# Altium integrated library Linear Technology Power Management Switching Regulator LT1074-LT8705.IntLib: 2252 symbols (part 143 of 148)
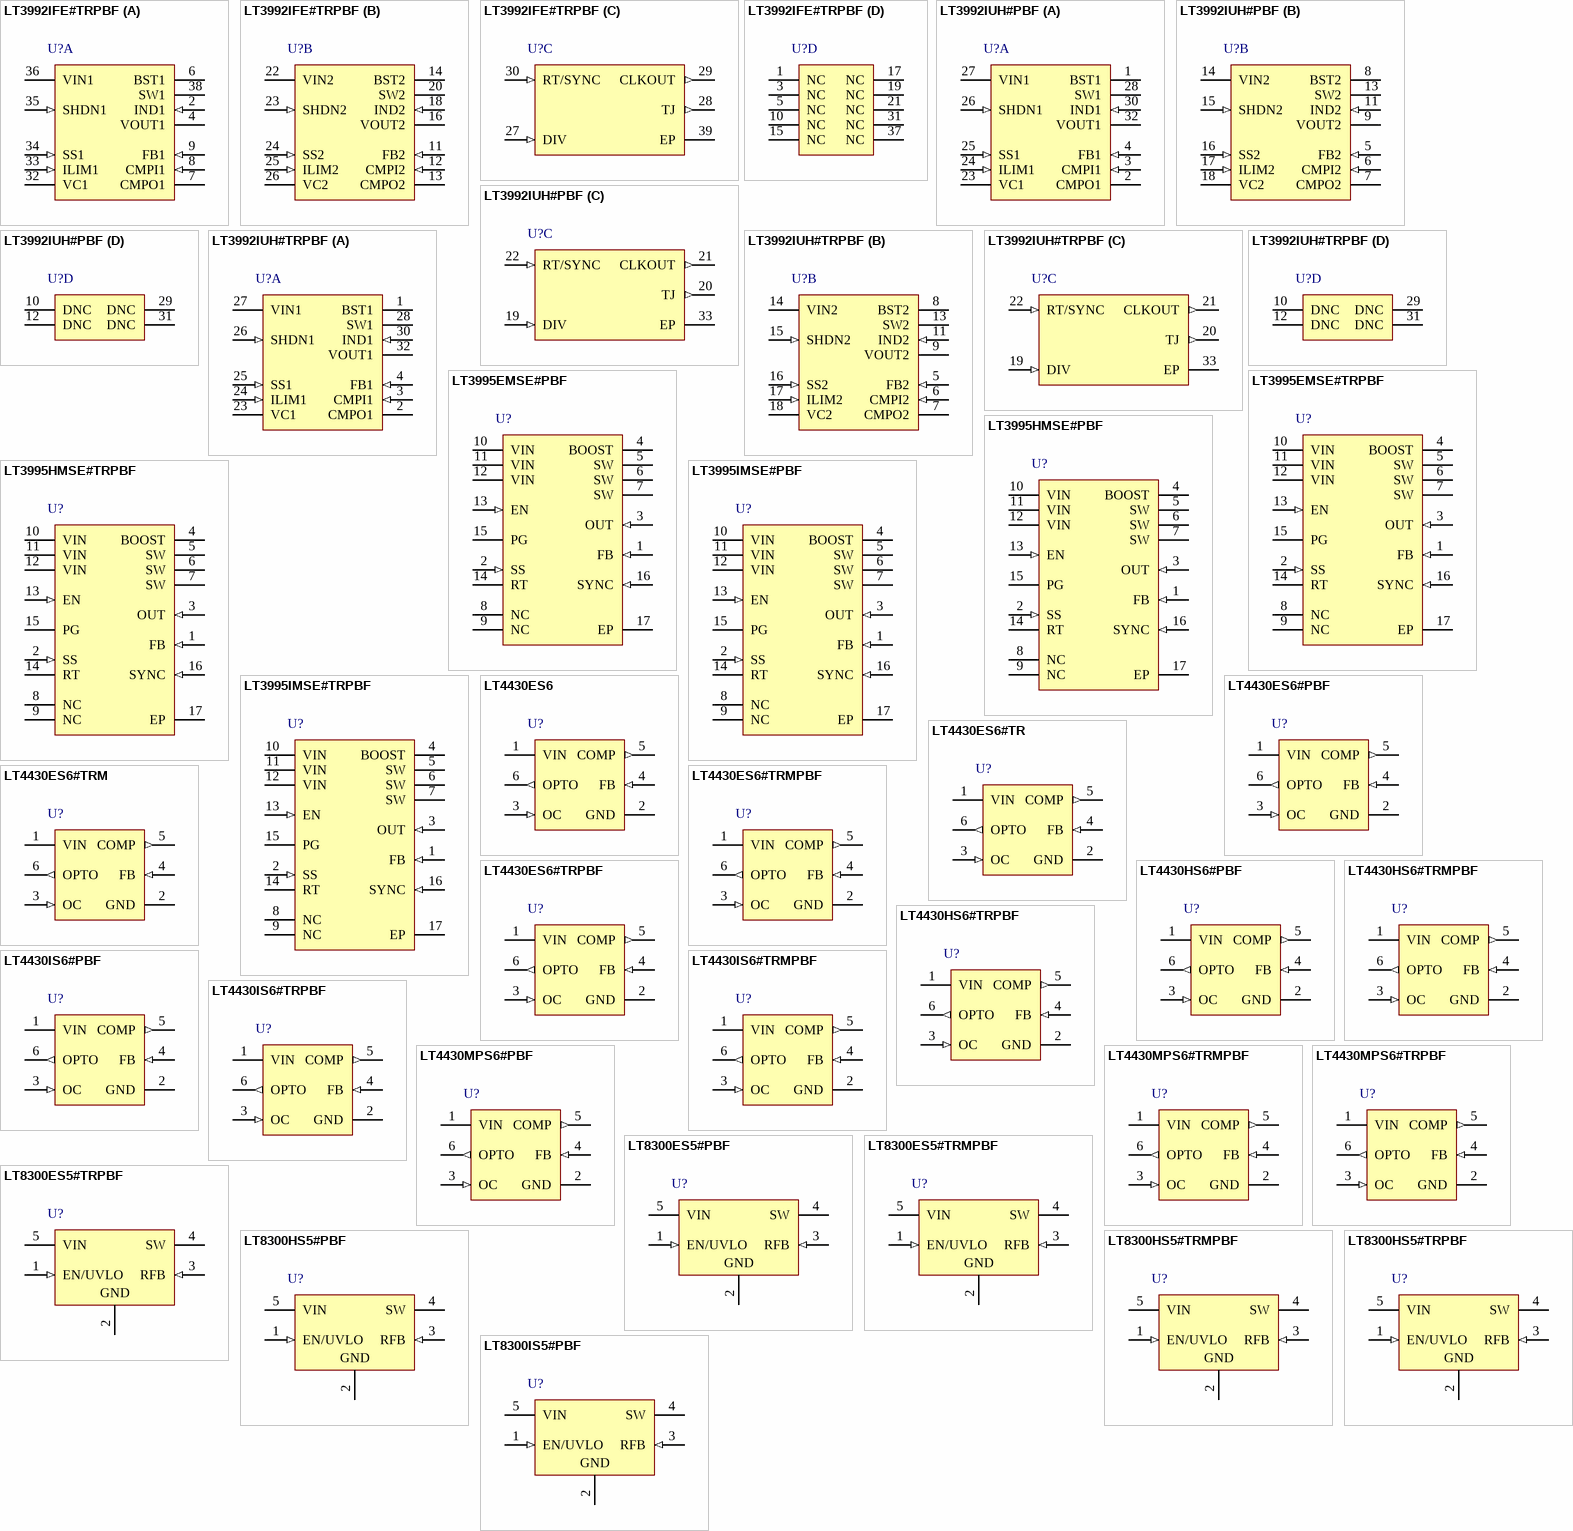
[diagram p213: symbols LT3992IFE#TRPBF to LT8300IS5#PBF]

## LT3992IUH#TRPBF
designator U?
Monolithic Dual Tracking 3 A Step-Down Switching Regulator, 32-pin QFN (UH-32), -40 to 125 degC, Pb-Free, Tape and Reel; Manufacturer: Linear Technology; PartNumber: LT3992IUH#TRPBF; Frequency Adjust Range: 250kHz - 2MHz; Number of Outputs: 2; DatasheetVersion: Rev. A; PackageVersion: Rev. D, 06/2010; PackageReference: UH-32; PackageDescription: 32-Pin Plastic QFN, Body 5 x 5 mm, Pitch 0.5 mm; Supplier 1: Digi-Key; Supplier Part Number 1: LT3992IUH#TRPBF-ND; Packing: Tape and Reel; RoHS: TRUE; Mounting Technology: Surface Mount; Code_JEDEC: MO-220; ComponentLink1Description: Manufacturer URL; ComponentLink1URL: http://www.linear.com/; ComponentLink2Description: Datasheet; ComponentLink2URL: http://cds.linear.com/docs/en/datasheet/3992fa.pdf; ComponentLink3Description: Package Specification; ComponentLink3URL: http://cds.linear.com/docs/en/packaging/QFN_32_05-08-1693.pdf
footprint LT-UH-32_N (QFN, 32-Leads, Body 5.1x5.1mm, Pitch 0.5mm, Thermal Pad 3.45X3.45mm, IPC Medium Density)
footprint LT-UH-32_L (QFN, 32-Leads, Body 5.1x5.1mm, Pitch 0.5mm, Thermal Pad 3.45X3.45mm, IPC High Density)
footprint LT-UH-32_M (QFN, 32-Leads, Body 5.1x5.1mm, Pitch 0.5mm, Thermal Pad 3.45X3.45mm, IPC Low Density)
part A pins: 1 BST1 "The BST pin provides a higher than VIN base drive to the power NPN to ensure a low switch drop. If the voltage between the BST pin and the VIN pin is less than the voltage required to fully turn on the power NPN, the power (See Datasheet)", 2 CMPO1 (oc) "The CMPO pin is an open-collector output that sinks current when the CMPI pin falls below its threshold. For a typical input voltage above 2.9V, its output state remains true, although during shutdown, VIN1 undervoltage (See Datasheet)", 3 CMPI1 (in) "The CMPI pin is an input to a comparator with a threshold of 725mV and 80mV of hysteresis. Connecting the CMPI pin to the FB pin will generate a power good signal when the output is within 90% of its regulated value.", 4 FB1 (in) "The FB pin is the negative input to the error amplifier. The output switches to regulate this pin to 806mV with respect to the exposed ground pad. Bias current flows out of the FB pin.", 23 VC1 "The VC pin is the output of the error amplifier and the input to the peak switch current comparator. It is normally used for frequency compensation, but can also be used as a current clamp or control loop override. If the (See Datasheet)", 24 ILIM1 (in) "The voltage present at the ILIM pin determines the peak inductor current for the channel. The ILIM pin is driven by an internal current source with a typical value of 12uA. A resistor from the ILIM pin to ground sets the (See Datasheet)", 25 SS1 (in) "Current flowing out the SS pin into an external capacitor defines the rise time of the output voltage. When the SS pin is lower than the 0.806V reference, the feedback is regulated to the SS voltage. When the SS pin exceeds (See Datasheet)", 26 SHDN1 (in) "The shutdown pin is used to control each channel’s operation. In addition to controlling channel 1, the SHDN1 pin also activates control circuitry for both channels and must be present for channel 2 to operate. When SHDN(See Datasheet)", 27 VIN1 (power) "The VIN1 pin powers the internal control circuitry for both channels and is monitored by an undervoltage lockout comparator. The VIN1 pin is also connected to the collector of channel 1’s on-chip power NPN switch. The VIN(See Datasheet)", 28 SW1 (power) "The SW pin is the emitter of the internal power NPN. At switch off, the inductor will drive this pin below ground with a high dV/dt. An external Schottky catch diode to ground, close to the SW pin and respective VIN (See Datasheet)", 30 IND1 (in) "The IND pin is the input to the internal sense resistor that measures current flowing in the inductor. When the current in the resistor exceeds the current dictated by the VC pin, the SW latch is held in reset, disabling the (See Datasheet)", 32 VOUT1 (power) "The VOUT pin is the output to the internal sense resistor that measures current flowing in the inductor. When the current in the resistor exceeds the current dictated by the VC pin, the SW latch is held in reset disabling (See Datasheet)"
part B pins: 5 FB2 (in) "The FB pin is the negative input to the error amplifier. The output switches to regulate this pin to 806mV with respect to the exposed ground pad. Bias current flows out of the FB pin.", 6 CMPI2 (in) "The CMPI pin is an input to a comparator with a threshold of 725mV and 80mV of hysteresis. Connecting the CMPI pin to the FB pin will generate a power good signal when the output is within 90% of its regulated value.", 7 CMPO2 (oc) "The CMPO pin is an open-collector output that sinks current when the CMPI pin falls below its threshold. For a typical input voltage above 2.9V, its output state remains true, although during shutdown, VIN1 undervoltage (See Datasheet)", 8 BST2 "The BST pin provides a higher than VIN base drive to the power NPN to ensure a low switch drop. If the voltage between the BST pin and the VIN pin is less than the voltage required to fully turn on the power NPN, the power (See Datasheet)", 9 VOUT2 (power) "The VOUT pin is the output to the internal sense resistor that measures current flowing in the inductor. When the current in the resistor exceeds the current dictated by the VC pin, the SW latch is held in reset disabling (See Datasheet)", 11 IND2 (in) "The IND pin is the input to the internal sense resistor that measures current flowing in the inductor. When the current in the resistor exceeds the current dictated by the VC pin, the SW latch is held in reset, disabling the (See Datasheet)", 13 SW2 (power) "The SW pin is the emitter of the internal power NPN. At switch off, the inductor will drive this pin below ground with a high dV/dt. An external Schottky catch diode to ground, close to the SW pin and respective VIN (See Datasheet)", 14 VIN2 (power) "The VIN2 pin powers the output stage for channel 2 and is monitored by an undervoltage lockout comparator. VIN1 voltage must be greater than typically 2.9V for VIN2 operation. The VIN2 pin is also the collector of channel (See Datasheet)", 15 SHDN2 (in) "The shutdown pin is used to control each channel’s operation. In addition to controlling channel 1, the SHDN1 pin also activates control circuitry for both channels and must be present for channel 2 to operate. When SHDN(See Datasheet)", 16 SS2 (in) "Current flowing out the SS pin into an external capacitor defines the rise time of the output voltage. When the SS pin is lower than the 0.806V reference, the feedback is regulated to the SS voltage. When the SS pin exceeds (See Datasheet)", 17 ILIM2 (in) "The voltage present at the ILIM pin determines the peak inductor current for the channel. The ILIM pin is driven by an internal current source with a typical value of 12uA. A resistor from the ILIM pin to ground sets the (See Datasheet)", 18 VC2 "The VC pin is the output of the error amplifier and the input to the peak switch current comparator. It is normally used for frequency compensation, but can also be used as a current clamp or control loop override. If the (See Datasheet)"
part C pins: 19 DIV (in) "The voltage present at the DIV pin determines the ratio of channel 1 frequency to the master clock frequency set by the RT/SYNC pin. The DIV pin is driven by an internal current source with a typical value of 12uA which (See Datasheet)", 20 TJ (out) "The TJ pin outputs a voltage proportional to junction temperature. The pin is 250mV for 25degreesC and has a slope of 10mV/degreesC. See the Applications Information section for more information.", 21 CLKOUT (out) "The CLKOUT pin generates a square wave of 0V to 2.5V which is synchronized to the internal oscillator. If the switching frequency is set by an external resistor the resultant clock duty cycle will be 50%. If the RT/SYNC pin (See Datasheet)", 22 RT/SYNC (in) "The voltage present at the RT/SYNC pin determines the constant switching frequency. The RT/SYNC pin is driven by an internal current source with a typical value of 12uA which allows a single resistor from the RT/ SYNC pin to (See Datasheet)", 33 EP (power) "The exposed pad pin is the only ground connection for the device. The exposed pad should be soldered to a large copper area to reduce thermal resistance. The GND pin is common to both channels and also serves as small-signal (See Datasheet)"
part D pins: 10 DNC "Do Not Connect.", 12 DNC "Do Not Connect.", 29 DNC "Do Not Connect.", 31 DNC "Do Not Connect."

## LT3995EMSE#PBF
designator U?
3 A, 2 MHz Step-Down Switching Regulator with 2.7 uA Quiescent Current, 16-pin SOP (MSE-16-EDP), -40 to 125 degC, Pb-Free; Manufacturer: Linear Technology; PartNumber: LT3995EMSE#PBF; Frequency Adjust Range: 200kHz - 2MHz; Number of Outputs: 1; PackageVersion: Rev. F, 05/2013; PackageReference: MSE-16; PackageDescription: 16-Pin Plastic MSOP, Exposed Die Pad, Body 4.039 x 3 mm, Pitch 0.5 mm; Supplier 1: Digi-Key; Supplier Part Number 1: LT3995EMSE#PBF-ND; Supplier 2: Newark; Supplier Part Number 2: 95W3394; RoHS: TRUE; Mounting Technology: Surface Mount; ComponentLink1Description: Manufacturer URL; ComponentLink1URL: http://www.linear.com/; ComponentLink2Description: Datasheet; ComponentLink2URL: http://cds.linear.com/docs/en/datasheet/3995f.pdf; ComponentLink3Description: Package Specification; ComponentLink3URL: http://cds.linear.com/docs/en/packaging/05081667_F_MSE16.pdf
footprint LT-MSE-16-EDP_N (SOP, 16-Leads, Body 4.1x3.1mm, Pitch 0.5mm, Thermal Pad 2.95x1.76mm, IPC Medium Density)
footprint LT-MSE-16-EDP_L (SOP, 16-Leads, Body 4.1x3.1mm, Pitch 0.5mm, Thermal Pad 2.95x1.76mm, IPC High Density)
footprint LT-MSE-16-EDP_M (SOP, 16-Leads, Body 4.1x3.1mm, Pitch 0.5mm, Thermal Pad 2.95x1.76mm, IPC Low Density)
pins: 1 FB (in) "The LT3995 regulates the FB pin to 1.197V. Connect the feedback resistor divider tap to this pin. Also, connect a phase lead capacitor between FB and the output. Typically, this capacitor is 10pF.", 2 SS (in) "A capacitor is tied between SS and ground to slowly ramp up the peak current limit of the LT3995 on start-up. There is an internal 1.8uA pull-up on this pin. The soft-start capacitor is actively discharged when the EN pin (See Datasheet)", 3 OUT (in) "This pin is an input to the dropout comparator which maintains a minimum dropout of 500mV between VIN and OUT. The OUT pin connects to the anode of the internal boost diode. This pin also supplies the current to the (See Datasheet)", 4 BOOST "This pin is used to provide a drive voltage, higher than the input voltage, to the internal bipolar NPN power switch.", 5 SW (power) "The SW pin is the output of an internal power switch. Connect these pins to the inductor, catch diode, and boost capacitor.", 6 SW (power) "The SW pin is the output of an internal power switch. Connect these pins to the inductor, catch diode, and boost capacitor.", 7 SW (power) "The SW pin is the output of an internal power switch. Connect these pins to the inductor, catch diode, and boost capacitor.", 8 NC "No Connects. These pins are not connected to internal circuitry.", 9 NC "No Connects. These pins are not connected to internal circuitry.", 10 VIN (power) "The VIN pin supplies current to the LT3995’s internal circuitry and to the internal power switch. These pins must be locally bypassed.", 11 VIN (power) "The VIN pin supplies current to the LT3995’s internal circuitry and to the internal power switch. These pins must be locally bypassed.", 12 VIN (power) "The VIN pin supplies current to the LT3995’s internal circuitry and to the internal power switch. These pins must be locally bypassed.", 13 EN (in) "The part is in shutdown when this pin is low and active when this pin is high. The hysteretic threshold voltage is 1.08V going up and 1.02V going down. The EN threshold is only accurate when VIN is above 4.3V. If VIN is (See Datasheet)", 14 RT "A resistor is tied between RT and ground to set the switching frequency.", 15 PG (hiz) "The PG pin is the open-drain output of an internal comparator. PGOOD remains low until the FB pin is within 8.4% of the final regulation voltage. PGOOD is valid when VIN is above 2V.", 16 SYNC (in) "This is the external clock synchronization input. Ground this pin for low ripple Burst Mode operation at low output loads. Tie to a clock source for synchronization, which will include pulse skipping at low output loads. (See Datasheet)", 17 EP (power) "Ground. The exposed pad must be soldered to the PCB."

## LT3995EMSE#TRPBF
designator U?
3 A, 2 MHz Step-Down Switching Regulator with 2.7 uA Quiescent Current, 16-pin SOP (MSE-16-EDP), -40 to 125 degC, Pb-Free, Tape and Reel; Manufacturer: Linear Technology; PartNumber: LT3995EMSE#TRPBF; Frequency Adjust Range: 200kHz - 2MHz; Number of Outputs: 1; PackageVersion: Rev. F, 05/2013; PackageReference: MSE-16; PackageDescription: 16-Pin Plastic MSOP, Exposed Die Pad, Body 4.039 x 3 mm, Pitch 0.5 mm; Supplier 1: Digi-Key; Supplier Part Number 1: LT3995EMSE#TRPBF-ND; Supplier 2: Newark; Supplier Part Number 2: 95W3395; Packing: Tape and Reel; RoHS: TRUE; Mounting Technology: Surface Mount; ComponentLink1Description: Manufacturer URL; ComponentLink1URL: http://www.linear.com/; ComponentLink2Description: Datasheet; ComponentLink2URL: http://cds.linear.com/docs/en/datasheet/3995f.pdf; ComponentLink3Description: Package Specification; ComponentLink3URL: http://cds.linear.com/docs/en/packaging/05081667_F_MSE16.pdf
footprint LT-MSE-16-EDP_N (SOP, 16-Leads, Body 4.1x3.1mm, Pitch 0.5mm, Thermal Pad 2.95x1.76mm, IPC Medium Density)
footprint LT-MSE-16-EDP_L (SOP, 16-Leads, Body 4.1x3.1mm, Pitch 0.5mm, Thermal Pad 2.95x1.76mm, IPC High Density)
footprint LT-MSE-16-EDP_M (SOP, 16-Leads, Body 4.1x3.1mm, Pitch 0.5mm, Thermal Pad 2.95x1.76mm, IPC Low Density)
pins: 1 FB (in) "The LT3995 regulates the FB pin to 1.197V. Connect the feedback resistor divider tap to this pin. Also, connect a phase lead capacitor between FB and the output. Typically, this capacitor is 10pF.", 2 SS (in) "A capacitor is tied between SS and ground to slowly ramp up the peak current limit of the LT3995 on start-up. There is an internal 1.8uA pull-up on this pin. The soft-start capacitor is actively discharged when the EN pin (See Datasheet)", 3 OUT (in) "This pin is an input to the dropout comparator which maintains a minimum dropout of 500mV between VIN and OUT. The OUT pin connects to the anode of the internal boost diode. This pin also supplies the current to the (See Datasheet)", 4 BOOST "This pin is used to provide a drive voltage, higher than the input voltage, to the internal bipolar NPN power switch.", 5 SW (power) "The SW pin is the output of an internal power switch. Connect these pins to the inductor, catch diode, and boost capacitor.", 6 SW (power) "The SW pin is the output of an internal power switch. Connect these pins to the inductor, catch diode, and boost capacitor.", 7 SW (power) "The SW pin is the output of an internal power switch. Connect these pins to the inductor, catch diode, and boost capacitor.", 8 NC "No Connects. These pins are not connected to internal circuitry.", 9 NC "No Connects. These pins are not connected to internal circuitry.", 10 VIN (power) "The VIN pin supplies current to the LT3995’s internal circuitry and to the internal power switch. These pins must be locally bypassed.", 11 VIN (power) "The VIN pin supplies current to the LT3995’s internal circuitry and to the internal power switch. These pins must be locally bypassed.", 12 VIN (power) "The VIN pin supplies current to the LT3995’s internal circuitry and to the internal power switch. These pins must be locally bypassed.", 13 EN (in) "The part is in shutdown when this pin is low and active when this pin is high. The hysteretic threshold voltage is 1.08V going up and 1.02V going down. The EN threshold is only accurate when VIN is above 4.3V. If VIN is (See Datasheet)", 14 RT "A resistor is tied between RT and ground to set the switching frequency.", 15 PG (hiz) "The PG pin is the open-drain output of an internal comparator. PGOOD remains low until the FB pin is within 8.4% of the final regulation voltage. PGOOD is valid when VIN is above 2V.", 16 SYNC (in) "This is the external clock synchronization input. Ground this pin for low ripple Burst Mode operation at low output loads. Tie to a clock source for synchronization, which will include pulse skipping at low output loads. (See Datasheet)", 17 EP (power) "Ground. The exposed pad must be soldered to the PCB."

## LT3995HMSE#PBF
designator U?
3 A, 2 MHz Step-Down Switching Regulator with 2.7 uA Quiescent Current, 16-pin SOP (MSE-16-EDP), -40 to 150 degC, Pb-Free; Manufacturer: Linear Technology; PartNumber: LT3995HMSE#PBF; Frequency Adjust Range: 200kHz - 2MHz; Number of Outputs: 1; PackageVersion: Rev. F, 05/2013; PackageReference: MSE-16; PackageDescription: 16-Pin Plastic MSOP, Exposed Die Pad, Body 4.039 x 3 mm, Pitch 0.5 mm; Supplier 1: Digi-Key; Supplier Part Number 1: LT3995HMSE#PBF-ND; Supplier 2: Newark; Supplier Part Number 2: 95W3396; RoHS: TRUE; Mounting Technology: Surface Mount; ComponentLink1Description: Manufacturer URL; ComponentLink1URL: http://www.linear.com/; ComponentLink2Description: Datasheet; ComponentLink2URL: http://cds.linear.com/docs/en/datasheet/3995f.pdf; ComponentLink3Description: Package Specification; ComponentLink3URL: http://cds.linear.com/docs/en/packaging/05081667_F_MSE16.pdf
footprint LT-MSE-16-EDP_N (SOP, 16-Leads, Body 4.1x3.1mm, Pitch 0.5mm, Thermal Pad 2.95x1.76mm, IPC Medium Density)
footprint LT-MSE-16-EDP_L (SOP, 16-Leads, Body 4.1x3.1mm, Pitch 0.5mm, Thermal Pad 2.95x1.76mm, IPC High Density)
footprint LT-MSE-16-EDP_M (SOP, 16-Leads, Body 4.1x3.1mm, Pitch 0.5mm, Thermal Pad 2.95x1.76mm, IPC Low Density)
pins: 1 FB (in) "The LT3995 regulates the FB pin to 1.197V. Connect the feedback resistor divider tap to this pin. Also, connect a phase lead capacitor between FB and the output. Typically, this capacitor is 10pF.", 2 SS (in) "A capacitor is tied between SS and ground to slowly ramp up the peak current limit of the LT3995 on start-up. There is an internal 1.8uA pull-up on this pin. The soft-start capacitor is actively discharged when the EN pin (See Datasheet)", 3 OUT (in) "This pin is an input to the dropout comparator which maintains a minimum dropout of 500mV between VIN and OUT. The OUT pin connects to the anode of the internal boost diode. This pin also supplies the current to the (See Datasheet)", 4 BOOST "This pin is used to provide a drive voltage, higher than the input voltage, to the internal bipolar NPN power switch.", 5 SW (power) "The SW pin is the output of an internal power switch. Connect these pins to the inductor, catch diode, and boost capacitor.", 6 SW (power) "The SW pin is the output of an internal power switch. Connect these pins to the inductor, catch diode, and boost capacitor.", 7 SW (power) "The SW pin is the output of an internal power switch. Connect these pins to the inductor, catch diode, and boost capacitor.", 8 NC "No Connects. These pins are not connected to internal circuitry.", 9 NC "No Connects. These pins are not connected to internal circuitry.", 10 VIN (power) "The VIN pin supplies current to the LT3995’s internal circuitry and to the internal power switch. These pins must be locally bypassed.", 11 VIN (power) "The VIN pin supplies current to the LT3995’s internal circuitry and to the internal power switch. These pins must be locally bypassed.", 12 VIN (power) "The VIN pin supplies current to the LT3995’s internal circuitry and to the internal power switch. These pins must be locally bypassed.", 13 EN (in) "The part is in shutdown when this pin is low and active when this pin is high. The hysteretic threshold voltage is 1.08V going up and 1.02V going down. The EN threshold is only accurate when VIN is above 4.3V. If VIN is (See Datasheet)", 14 RT "A resistor is tied between RT and ground to set the switching frequency.", 15 PG (hiz) "The PG pin is the open-drain output of an internal comparator. PGOOD remains low until the FB pin is within 8.4% of the final regulation voltage. PGOOD is valid when VIN is above 2V.", 16 SYNC (in) "This is the external clock synchronization input. Ground this pin for low ripple Burst Mode operation at low output loads. Tie to a clock source for synchronization, which will include pulse skipping at low output loads. (See Datasheet)", 17 EP (power) "Ground. The exposed pad must be soldered to the PCB."

## LT3995HMSE#TRPBF
designator U?
3 A, 2 MHz Step-Down Switching Regulator with 2.7 uA Quiescent Current, 16-pin SOP (MSE-16-EDP), -40 to 150 degC, Pb-Free, Tape and Reel; Manufacturer: Linear Technology; PartNumber: LT3995HMSE#TRPBF; Frequency Adjust Range: 200kHz - 2MHz; Number of Outputs: 1; PackageVersion: Rev. F, 05/2013; PackageReference: MSE-16; PackageDescription: 16-Pin Plastic MSOP, Exposed Die Pad, Body 4.039 x 3 mm, Pitch 0.5 mm; Supplier 1: Digi-Key; Supplier Part Number 1: LT3995HMSE#TRPBF-ND; Supplier 2: Newark; Supplier Part Number 2: 95W3397; Packing: Tape and Reel; RoHS: TRUE; Mounting Technology: Surface Mount; ComponentLink1Description: Manufacturer URL; ComponentLink1URL: http://www.linear.com/; ComponentLink2Description: Datasheet; ComponentLink2URL: http://cds.linear.com/docs/en/datasheet/3995f.pdf; ComponentLink3Description: Package Specification; ComponentLink3URL: http://cds.linear.com/docs/en/packaging/05081667_F_MSE16.pdf
footprint LT-MSE-16-EDP_N (SOP, 16-Leads, Body 4.1x3.1mm, Pitch 0.5mm, Thermal Pad 2.95x1.76mm, IPC Medium Density)
footprint LT-MSE-16-EDP_L (SOP, 16-Leads, Body 4.1x3.1mm, Pitch 0.5mm, Thermal Pad 2.95x1.76mm, IPC High Density)
footprint LT-MSE-16-EDP_M (SOP, 16-Leads, Body 4.1x3.1mm, Pitch 0.5mm, Thermal Pad 2.95x1.76mm, IPC Low Density)
pins: 1 FB (in) "The LT3995 regulates the FB pin to 1.197V. Connect the feedback resistor divider tap to this pin. Also, connect a phase lead capacitor between FB and the output. Typically, this capacitor is 10pF.", 2 SS (in) "A capacitor is tied between SS and ground to slowly ramp up the peak current limit of the LT3995 on start-up. There is an internal 1.8uA pull-up on this pin. The soft-start capacitor is actively discharged when the EN pin (See Datasheet)", 3 OUT (in) "This pin is an input to the dropout comparator which maintains a minimum dropout of 500mV between VIN and OUT. The OUT pin connects to the anode of the internal boost diode. This pin also supplies the current to the (See Datasheet)", 4 BOOST "This pin is used to provide a drive voltage, higher than the input voltage, to the internal bipolar NPN power switch.", 5 SW (power) "The SW pin is the output of an internal power switch. Connect these pins to the inductor, catch diode, and boost capacitor.", 6 SW (power) "The SW pin is the output of an internal power switch. Connect these pins to the inductor, catch diode, and boost capacitor.", 7 SW (power) "The SW pin is the output of an internal power switch. Connect these pins to the inductor, catch diode, and boost capacitor.", 8 NC "No Connects. These pins are not connected to internal circuitry.", 9 NC "No Connects. These pins are not connected to internal circuitry.", 10 VIN (power) "The VIN pin supplies current to the LT3995’s internal circuitry and to the internal power switch. These pins must be locally bypassed.", 11 VIN (power) "The VIN pin supplies current to the LT3995’s internal circuitry and to the internal power switch. These pins must be locally bypassed.", 12 VIN (power) "The VIN pin supplies current to the LT3995’s internal circuitry and to the internal power switch. These pins must be locally bypassed.", 13 EN (in) "The part is in shutdown when this pin is low and active when this pin is high. The hysteretic threshold voltage is 1.08V going up and 1.02V going down. The EN threshold is only accurate when VIN is above 4.3V. If VIN is (See Datasheet)", 14 RT "A resistor is tied between RT and ground to set the switching frequency.", 15 PG (hiz) "The PG pin is the open-drain output of an internal comparator. PGOOD remains low until the FB pin is within 8.4% of the final regulation voltage. PGOOD is valid when VIN is above 2V.", 16 SYNC (in) "This is the external clock synchronization input. Ground this pin for low ripple Burst Mode operation at low output loads. Tie to a clock source for synchronization, which will include pulse skipping at low output loads. (See Datasheet)", 17 EP (power) "Ground. The exposed pad must be soldered to the PCB."

## LT3995IMSE#PBF
designator U?
3 A, 2 MHz Step-Down Switching Regulator with 2.7 uA Quiescent Current, 16-pin SOP (MSE-16-EDP), -40 to 125 degC, Pb-Free; Manufacturer: Linear Technology; PartNumber: LT3995IMSE#PBF; Frequency Adjust Range: 200kHz - 2MHz; Number of Outputs: 1; PackageVersion: Rev. F, 05/2013; PackageReference: MSE-16; PackageDescription: 16-Pin Plastic MSOP, Exposed Die Pad, Body 4.039 x 3 mm, Pitch 0.5 mm; Supplier 1: Digi-Key; Supplier Part Number 1: LT3995IMSE#PBF-ND; Supplier 2: Newark; Supplier Part Number 2: 95W3398; RoHS: TRUE; Mounting Technology: Surface Mount; ComponentLink1Description: Manufacturer URL; ComponentLink1URL: http://www.linear.com/; ComponentLink2Description: Datasheet; ComponentLink2URL: http://cds.linear.com/docs/en/datasheet/3995f.pdf; ComponentLink3Description: Package Specification; ComponentLink3URL: http://cds.linear.com/docs/en/packaging/05081667_F_MSE16.pdf
footprint LT-MSE-16-EDP_N (SOP, 16-Leads, Body 4.1x3.1mm, Pitch 0.5mm, Thermal Pad 2.95x1.76mm, IPC Medium Density)
footprint LT-MSE-16-EDP_L (SOP, 16-Leads, Body 4.1x3.1mm, Pitch 0.5mm, Thermal Pad 2.95x1.76mm, IPC High Density)
footprint LT-MSE-16-EDP_M (SOP, 16-Leads, Body 4.1x3.1mm, Pitch 0.5mm, Thermal Pad 2.95x1.76mm, IPC Low Density)
pins: 1 FB (in) "The LT3995 regulates the FB pin to 1.197V. Connect the feedback resistor divider tap to this pin. Also, connect a phase lead capacitor between FB and the output. Typically, this capacitor is 10pF.", 2 SS (in) "A capacitor is tied between SS and ground to slowly ramp up the peak current limit of the LT3995 on start-up. There is an internal 1.8uA pull-up on this pin. The soft-start capacitor is actively discharged when the EN pin (See Datasheet)", 3 OUT (in) "This pin is an input to the dropout comparator which maintains a minimum dropout of 500mV between VIN and OUT. The OUT pin connects to the anode of the internal boost diode. This pin also supplies the current to the (See Datasheet)", 4 BOOST "This pin is used to provide a drive voltage, higher than the input voltage, to the internal bipolar NPN power switch.", 5 SW (power) "The SW pin is the output of an internal power switch. Connect these pins to the inductor, catch diode, and boost capacitor.", 6 SW (power) "The SW pin is the output of an internal power switch. Connect these pins to the inductor, catch diode, and boost capacitor.", 7 SW (power) "The SW pin is the output of an internal power switch. Connect these pins to the inductor, catch diode, and boost capacitor.", 8 NC "No Connects. These pins are not connected to internal circuitry.", 9 NC "No Connects. These pins are not connected to internal circuitry.", 10 VIN (power) "The VIN pin supplies current to the LT3995’s internal circuitry and to the internal power switch. These pins must be locally bypassed.", 11 VIN (power) "The VIN pin supplies current to the LT3995’s internal circuitry and to the internal power switch. These pins must be locally bypassed.", 12 VIN (power) "The VIN pin supplies current to the LT3995’s internal circuitry and to the internal power switch. These pins must be locally bypassed.", 13 EN (in) "The part is in shutdown when this pin is low and active when this pin is high. The hysteretic threshold voltage is 1.08V going up and 1.02V going down. The EN threshold is only accurate when VIN is above 4.3V. If VIN is (See Datasheet)", 14 RT "A resistor is tied between RT and ground to set the switching frequency.", 15 PG (hiz) "The PG pin is the open-drain output of an internal comparator. PGOOD remains low until the FB pin is within 8.4% of the final regulation voltage. PGOOD is valid when VIN is above 2V.", 16 SYNC (in) "This is the external clock synchronization input. Ground this pin for low ripple Burst Mode operation at low output loads. Tie to a clock source for synchronization, which will include pulse skipping at low output loads. (See Datasheet)", 17 EP (power) "Ground. The exposed pad must be soldered to the PCB."

## LT3995IMSE#TRPBF
designator U?
3 A, 2 MHz Step-Down Switching Regulator with 2.7 uA Quiescent Current, 16-pin SOP (MSE-16-EDP), -40 to 125 degC, Pb-Free, Tape and Reel; Manufacturer: Linear Technology; PartNumber: LT3995IMSE#TRPBF; Frequency Adjust Range: 200kHz - 2MHz; Number of Outputs: 1; PackageVersion: Rev. F, 05/2013; PackageReference: MSE-16; PackageDescription: 16-Pin Plastic MSOP, Exposed Die Pad, Body 4.039 x 3 mm, Pitch 0.5 mm; Supplier 1: Digi-Key; Supplier Part Number 1: LT3995IMSE#TRPBF-ND; Supplier 2: Newark; Supplier Part Number 2: 95W3399; Packing: Tape and Reel; RoHS: TRUE; Mounting Technology: Surface Mount; ComponentLink1Description: Manufacturer URL; ComponentLink1URL: http://www.linear.com/; ComponentLink2Description: Datasheet; ComponentLink2URL: http://cds.linear.com/docs/en/datasheet/3995f.pdf; ComponentLink3Description: Package Specification; ComponentLink3URL: http://cds.linear.com/docs/en/packaging/05081667_F_MSE16.pdf
footprint LT-MSE-16-EDP_N (SOP, 16-Leads, Body 4.1x3.1mm, Pitch 0.5mm, Thermal Pad 2.95x1.76mm, IPC Medium Density)
footprint LT-MSE-16-EDP_L (SOP, 16-Leads, Body 4.1x3.1mm, Pitch 0.5mm, Thermal Pad 2.95x1.76mm, IPC High Density)
footprint LT-MSE-16-EDP_M (SOP, 16-Leads, Body 4.1x3.1mm, Pitch 0.5mm, Thermal Pad 2.95x1.76mm, IPC Low Density)
pins: 1 FB (in) "The LT3995 regulates the FB pin to 1.197V. Connect the feedback resistor divider tap to this pin. Also, connect a phase lead capacitor between FB and the output. Typically, this capacitor is 10pF.", 2 SS (in) "A capacitor is tied between SS and ground to slowly ramp up the peak current limit of the LT3995 on start-up. There is an internal 1.8uA pull-up on this pin. The soft-start capacitor is actively discharged when the EN pin (See Datasheet)", 3 OUT (in) "This pin is an input to the dropout comparator which maintains a minimum dropout of 500mV between VIN and OUT. The OUT pin connects to the anode of the internal boost diode. This pin also supplies the current to the (See Datasheet)", 4 BOOST "This pin is used to provide a drive voltage, higher than the input voltage, to the internal bipolar NPN power switch.", 5 SW (power) "The SW pin is the output of an internal power switch. Connect these pins to the inductor, catch diode, and boost capacitor.", 6 SW (power) "The SW pin is the output of an internal power switch. Connect these pins to the inductor, catch diode, and boost capacitor.", 7 SW (power) "The SW pin is the output of an internal power switch. Connect these pins to the inductor, catch diode, and boost capacitor.", 8 NC "No Connects. These pins are not connected to internal circuitry.", 9 NC "No Connects. These pins are not connected to internal circuitry.", 10 VIN (power) "The VIN pin supplies current to the LT3995’s internal circuitry and to the internal power switch. These pins must be locally bypassed.", 11 VIN (power) "The VIN pin supplies current to the LT3995’s internal circuitry and to the internal power switch. These pins must be locally bypassed.", 12 VIN (power) "The VIN pin supplies current to the LT3995’s internal circuitry and to the internal power switch. These pins must be locally bypassed.", 13 EN (in) "The part is in shutdown when this pin is low and active when this pin is high. The hysteretic threshold voltage is 1.08V going up and 1.02V going down. The EN threshold is only accurate when VIN is above 4.3V. If VIN is (See Datasheet)", 14 RT "A resistor is tied between RT and ground to set the switching frequency.", 15 PG (hiz) "The PG pin is the open-drain output of an internal comparator. PGOOD remains low until the FB pin is within 8.4% of the final regulation voltage. PGOOD is valid when VIN is above 2V.", 16 SYNC (in) "This is the external clock synchronization input. Ground this pin for low ripple Burst Mode operation at low output loads. Tie to a clock source for synchronization, which will include pulse skipping at low output loads. (See Datasheet)", 17 EP (power) "Ground. The exposed pad must be soldered to the PCB."

## LT4430ES6
designator U?
Secondary-Side Optocoupler Driver, 6-pin SOT23 (S6-6), -40 to 125 degC; Manufacturer: Linear Technology; PartNumber: LT4430ES6; Number of Outputs: 1; DatasheetVersion: Rev. B; PackageVersion: Jun-10; PackageReference: S6-6; PackageDescription: 6-Pin Plastic TSOT-23, Body 2.9 x 1.63 mm, Pitch 0.95 mm; RoHS: FALSE; Mounting Technology: Surface Mount; Code_JEDEC: MO-193; ComponentLink1Description: Manufacturer URL; ComponentLink1URL: http://www.linear.com/; ComponentLink2Description: Datasheet; ComponentLink2URL: http://cds.linear.com/docs/en/datasheet/4430fb.pdf; ComponentLink3Description: Package Specification; ComponentLink3URL: http://cds.linear.com/docs/en/packaging/SOT_6_05-08-1636.pdf
footprint LT-S6-6-TSOT-23_N (SOT23, 6-Leads, Body 2.9x1.75mm, Pitch 0.95mm, IPC Medium Density)
footprint LT-S6-6-TSOT-23_L (SOT23, 6-Leads, Body 2.9x1.75mm, Pitch 0.95mm, IPC High Density)
footprint LT-S6-6-TSOT-23_M (SOT23, 6-Leads, Body 2.9x1.75mm, Pitch 0.95mm, IPC Low Density)
pins: 1 VIN (power) "This is the input supply that powers all internal circuitry. The input supply range is 3V minimum to 20V maximum and the typical input quiescent current is 1.9mA. Connect a 1uF bypass capacitor directly from VIN to GND.", 2 GND (power) "Analog Ground Pin. It is also the negative sense terminal for the internal 0.6V reference. Connect the external feedback divider network that terminates to ground directly to this pin for best regulation and performance.", 3 OC (in) "Overshoot Control Pin. A typical 8.5uA current source and a capacitor placed from this pin to GND controls output voltage overshoot on start-up and recovery from short-circuit. The typical ramp time is (COC ?.6V)/8.5uA(See Datasheet)", 4 FB (in) "This is the inverting input of the error amplifier. The noninverting input is tied to the internal 0.6V reference. Input bias current for this pin is typically 75nA flowing out of the pin. This pin normally ties to a (See Datasheet)", 5 COMP (out) "This is the output of the error amplifier. The error amplifier is a true voltage-mode error amplifier and frequency compensation is performed around the amplifier. Typical LT4430 compensation schemes use series R-C in (See Datasheet)", 6 OPTO (out) "This is the output of the amplifier that drives the opto-coupler. The opto driver amplifier uses an inverting gain of six configuration to drive the opto-coupler referenced to ground. Driving the opto-coupler referenced to (See Datasheet)"

## LT4430ES6#PBF
designator U?
Secondary-Side Optocoupler Driver, 6-pin SOT23 (S6-6), -40 to 125 degC, Pb-Free; Manufacturer: Linear Technology; PartNumber: LT4430ES6#PBF; Number of Outputs: 1; DatasheetVersion: Rev. B; PackageVersion: Jun-10; PackageReference: S6-6; PackageDescription: 6-Pin Plastic TSOT-23, Body 2.9 x 1.63 mm, Pitch 0.95 mm; Supplier 1: Farnell; Supplier Part Number 1: 2308215; Supplier 2: Newark; Supplier Part Number 2: 78T4110; RoHS: TRUE; Mounting Technology: Surface Mount; Code_JEDEC: MO-193; ComponentLink1Description: Manufacturer URL; ComponentLink1URL: http://www.linear.com/; ComponentLink2Description: Datasheet; ComponentLink2URL: http://cds.linear.com/docs/en/datasheet/4430fb.pdf; ComponentLink3Description: Package Specification; ComponentLink3URL: http://cds.linear.com/docs/en/packaging/SOT_6_05-08-1636.pdf
footprint LT-S6-6-TSOT-23_N (SOT23, 6-Leads, Body 2.9x1.75mm, Pitch 0.95mm, IPC Medium Density)
footprint LT-S6-6-TSOT-23_L (SOT23, 6-Leads, Body 2.9x1.75mm, Pitch 0.95mm, IPC High Density)
footprint LT-S6-6-TSOT-23_M (SOT23, 6-Leads, Body 2.9x1.75mm, Pitch 0.95mm, IPC Low Density)
pins: 1 VIN (power) "This is the input supply that powers all internal circuitry. The input supply range is 3V minimum to 20V maximum and the typical input quiescent current is 1.9mA. Connect a 1uF bypass capacitor directly from VIN to GND.", 2 GND (power) "Analog Ground Pin. It is also the negative sense terminal for the internal 0.6V reference. Connect the external feedback divider network that terminates to ground directly to this pin for best regulation and performance.", 3 OC (in) "Overshoot Control Pin. A typical 8.5uA current source and a capacitor placed from this pin to GND controls output voltage overshoot on start-up and recovery from short-circuit. The typical ramp time is (COC ?.6V)/8.5uA(See Datasheet)", 4 FB (in) "This is the inverting input of the error amplifier. The noninverting input is tied to the internal 0.6V reference. Input bias current for this pin is typically 75nA flowing out of the pin. This pin normally ties to a (See Datasheet)", 5 COMP (out) "This is the output of the error amplifier. The error amplifier is a true voltage-mode error amplifier and frequency compensation is performed around the amplifier. Typical LT4430 compensation schemes use series R-C in (See Datasheet)", 6 OPTO (out) "This is the output of the amplifier that drives the opto-coupler. The opto driver amplifier uses an inverting gain of six configuration to drive the opto-coupler referenced to ground. Driving the opto-coupler referenced to (See Datasheet)"

## LT4430ES6#TR
designator U?
Secondary-Side Optocoupler Driver, 6-pin SOT23 (S6-6), -40 to 125 degC, Tape and Reel; Manufacturer: Linear Technology; PartNumber: LT4430ES6#TR; Number of Outputs: 1; DatasheetVersion: Rev. B; PackageVersion: Jun-10; PackageReference: S6-6; PackageDescription: 6-Pin Plastic TSOT-23, Body 2.9 x 1.63 mm, Pitch 0.95 mm; Packing: Tape and Reel; RoHS: FALSE; Mounting Technology: Surface Mount; Code_JEDEC: MO-193; ComponentLink1Description: Manufacturer URL; ComponentLink1URL: http://www.linear.com/; ComponentLink2Description: Datasheet; ComponentLink2URL: http://cds.linear.com/docs/en/datasheet/4430fb.pdf; ComponentLink3Description: Package Specification; ComponentLink3URL: http://cds.linear.com/docs/en/packaging/SOT_6_05-08-1636.pdf
footprint LT-S6-6-TSOT-23_N (SOT23, 6-Leads, Body 2.9x1.75mm, Pitch 0.95mm, IPC Medium Density)
footprint LT-S6-6-TSOT-23_L (SOT23, 6-Leads, Body 2.9x1.75mm, Pitch 0.95mm, IPC High Density)
footprint LT-S6-6-TSOT-23_M (SOT23, 6-Leads, Body 2.9x1.75mm, Pitch 0.95mm, IPC Low Density)
pins: 1 VIN (power) "This is the input supply that powers all internal circuitry. The input supply range is 3V minimum to 20V maximum and the typical input quiescent current is 1.9mA. Connect a 1uF bypass capacitor directly from VIN to GND.", 2 GND (power) "Analog Ground Pin. It is also the negative sense terminal for the internal 0.6V reference. Connect the external feedback divider network that terminates to ground directly to this pin for best regulation and performance.", 3 OC (in) "Overshoot Control Pin. A typical 8.5uA current source and a capacitor placed from this pin to GND controls output voltage overshoot on start-up and recovery from short-circuit. The typical ramp time is (COC ?.6V)/8.5uA(See Datasheet)", 4 FB (in) "This is the inverting input of the error amplifier. The noninverting input is tied to the internal 0.6V reference. Input bias current for this pin is typically 75nA flowing out of the pin. This pin normally ties to a (See Datasheet)", 5 COMP (out) "This is the output of the error amplifier. The error amplifier is a true voltage-mode error amplifier and frequency compensation is performed around the amplifier. Typical LT4430 compensation schemes use series R-C in (See Datasheet)", 6 OPTO (out) "This is the output of the amplifier that drives the opto-coupler. The opto driver amplifier uses an inverting gain of six configuration to drive the opto-coupler referenced to ground. Driving the opto-coupler referenced to (See Datasheet)"

## LT4430ES6#TRM
designator U?
Secondary-Side Optocoupler Driver, 6-pin SOT23 (S6-6), -40 to 125 degC, Mini Tape and Reel; Manufacturer: Linear Technology; PartNumber: LT4430ES6#TRM; Number of Outputs: 1; DatasheetVersion: Rev. B; PackageVersion: Jun-10; PackageReference: S6-6; PackageDescription: 6-Pin Plastic TSOT-23, Body 2.9 x 1.63 mm, Pitch 0.95 mm; Packing: Mini Tape and Reel; RoHS: FALSE; Mounting Technology: Surface Mount; Code_JEDEC: MO-193; ComponentLink1Description: Manufacturer URL; ComponentLink1URL: http://www.linear.com/; ComponentLink2Description: Datasheet; ComponentLink2URL: http://cds.linear.com/docs/en/datasheet/4430fb.pdf; ComponentLink3Description: Package Specification; ComponentLink3URL: http://cds.linear.com/docs/en/packaging/SOT_6_05-08-1636.pdf
footprint LT-S6-6-TSOT-23_N (SOT23, 6-Leads, Body 2.9x1.75mm, Pitch 0.95mm, IPC Medium Density)
footprint LT-S6-6-TSOT-23_L (SOT23, 6-Leads, Body 2.9x1.75mm, Pitch 0.95mm, IPC High Density)
footprint LT-S6-6-TSOT-23_M (SOT23, 6-Leads, Body 2.9x1.75mm, Pitch 0.95mm, IPC Low Density)
pins: 1 VIN (power) "This is the input supply that powers all internal circuitry. The input supply range is 3V minimum to 20V maximum and the typical input quiescent current is 1.9mA. Connect a 1uF bypass capacitor directly from VIN to GND.", 2 GND (power) "Analog Ground Pin. It is also the negative sense terminal for the internal 0.6V reference. Connect the external feedback divider network that terminates to ground directly to this pin for best regulation and performance.", 3 OC (in) "Overshoot Control Pin. A typical 8.5uA current source and a capacitor placed from this pin to GND controls output voltage overshoot on start-up and recovery from short-circuit. The typical ramp time is (COC ?.6V)/8.5uA(See Datasheet)", 4 FB (in) "This is the inverting input of the error amplifier. The noninverting input is tied to the internal 0.6V reference. Input bias current for this pin is typically 75nA flowing out of the pin. This pin normally ties to a (See Datasheet)", 5 COMP (out) "This is the output of the error amplifier. The error amplifier is a true voltage-mode error amplifier and frequency compensation is performed around the amplifier. Typical LT4430 compensation schemes use series R-C in (See Datasheet)", 6 OPTO (out) "This is the output of the amplifier that drives the opto-coupler. The opto driver amplifier uses an inverting gain of six configuration to drive the opto-coupler referenced to ground. Driving the opto-coupler referenced to (See Datasheet)"

## LT4430ES6#TRMPBF
designator U?
Secondary-Side Optocoupler Driver, 6-pin SOT23 (S6-6), -40 to 125 degC, Pb-Free, Mini Tape and Reel; Manufacturer: Linear Technology; PartNumber: LT4430ES6#TRMPBF; Number of Outputs: 1; DatasheetVersion: Rev. B; PackageVersion: Jun-10; PackageReference: S6-6; PackageDescription: 6-Pin Plastic TSOT-23, Body 2.9 x 1.63 mm, Pitch 0.95 mm; Supplier 1: Digi-Key; Supplier Part Number 1: LT4430ES6#TRMPBFTR-ND; Supplier 2: Digi-Key; Supplier Part Number 2: LT4430ES6#TRMPBFCT-ND; Supplier 3: Digi-Key; Supplier Part Number 3: LT4430ES6#TRMPBFDKR-ND; Supplier 4: Newark; Supplier Part Number 4: 57M8733; Packing: Mini Tape and Reel; RoHS: TRUE; Mounting Technology: Surface Mount; Code_JEDEC: MO-193; ComponentLink1Description: Manufacturer URL; ComponentLink1URL: http://www.linear.com/; ComponentLink2Description: Datasheet; ComponentLink2URL: http://cds.linear.com/docs/en/datasheet/4430fb.pdf; ComponentLink3Description: Package Specification; ComponentLink3URL: http://cds.linear.com/docs/en/packaging/SOT_6_05-08-1636.pdf
footprint LT-S6-6-TSOT-23_N (SOT23, 6-Leads, Body 2.9x1.75mm, Pitch 0.95mm, IPC Medium Density)
footprint LT-S6-6-TSOT-23_L (SOT23, 6-Leads, Body 2.9x1.75mm, Pitch 0.95mm, IPC High Density)
footprint LT-S6-6-TSOT-23_M (SOT23, 6-Leads, Body 2.9x1.75mm, Pitch 0.95mm, IPC Low Density)
pins: 1 VIN (power) "This is the input supply that powers all internal circuitry. The input supply range is 3V minimum to 20V maximum and the typical input quiescent current is 1.9mA. Connect a 1uF bypass capacitor directly from VIN to GND.", 2 GND (power) "Analog Ground Pin. It is also the negative sense terminal for the internal 0.6V reference. Connect the external feedback divider network that terminates to ground directly to this pin for best regulation and performance.", 3 OC (in) "Overshoot Control Pin. A typical 8.5uA current source and a capacitor placed from this pin to GND controls output voltage overshoot on start-up and recovery from short-circuit. The typical ramp time is (COC ?.6V)/8.5uA(See Datasheet)", 4 FB (in) "This is the inverting input of the error amplifier. The noninverting input is tied to the internal 0.6V reference. Input bias current for this pin is typically 75nA flowing out of the pin. This pin normally ties to a (See Datasheet)", 5 COMP (out) "This is the output of the error amplifier. The error amplifier is a true voltage-mode error amplifier and frequency compensation is performed around the amplifier. Typical LT4430 compensation schemes use series R-C in (See Datasheet)", 6 OPTO (out) "This is the output of the amplifier that drives the opto-coupler. The opto driver amplifier uses an inverting gain of six configuration to drive the opto-coupler referenced to ground. Driving the opto-coupler referenced to (See Datasheet)"

## LT4430ES6#TRPBF
designator U?
Secondary-Side Optocoupler Driver, 6-pin SOT23 (S6-6), -40 to 125 degC, Pb-Free, Tape and Reel; Manufacturer: Linear Technology; PartNumber: LT4430ES6#TRPBF; Number of Outputs: 1; DatasheetVersion: Rev. B; PackageVersion: Jun-10; PackageReference: S6-6; PackageDescription: 6-Pin Plastic TSOT-23, Body 2.9 x 1.63 mm, Pitch 0.95 mm; Supplier 1: Digi-Key; Supplier Part Number 1: LT4430ES6#TRPBF-ND; Supplier 2: Newark; Supplier Part Number 2: 57M8734; Packing: Tape and Reel; RoHS: TRUE; Mounting Technology: Surface Mount; Code_JEDEC: MO-193; ComponentLink1Description: Manufacturer URL; ComponentLink1URL: http://www.linear.com/; ComponentLink2Description: Datasheet; ComponentLink2URL: http://cds.linear.com/docs/en/datasheet/4430fb.pdf; ComponentLink3Description: Package Specification; ComponentLink3URL: http://cds.linear.com/docs/en/packaging/SOT_6_05-08-1636.pdf
footprint LT-S6-6-TSOT-23_N (SOT23, 6-Leads, Body 2.9x1.75mm, Pitch 0.95mm, IPC Medium Density)
footprint LT-S6-6-TSOT-23_L (SOT23, 6-Leads, Body 2.9x1.75mm, Pitch 0.95mm, IPC High Density)
footprint LT-S6-6-TSOT-23_M (SOT23, 6-Leads, Body 2.9x1.75mm, Pitch 0.95mm, IPC Low Density)
pins: 1 VIN (power) "This is the input supply that powers all internal circuitry. The input supply range is 3V minimum to 20V maximum and the typical input quiescent current is 1.9mA. Connect a 1uF bypass capacitor directly from VIN to GND.", 2 GND (power) "Analog Ground Pin. It is also the negative sense terminal for the internal 0.6V reference. Connect the external feedback divider network that terminates to ground directly to this pin for best regulation and performance.", 3 OC (in) "Overshoot Control Pin. A typical 8.5uA current source and a capacitor placed from this pin to GND controls output voltage overshoot on start-up and recovery from short-circuit. The typical ramp time is (COC ?.6V)/8.5uA(See Datasheet)", 4 FB (in) "This is the inverting input of the error amplifier. The noninverting input is tied to the internal 0.6V reference. Input bias current for this pin is typically 75nA flowing out of the pin. This pin normally ties to a (See Datasheet)", 5 COMP (out) "This is the output of the error amplifier. The error amplifier is a true voltage-mode error amplifier and frequency compensation is performed around the amplifier. Typical LT4430 compensation schemes use series R-C in (See Datasheet)", 6 OPTO (out) "This is the output of the amplifier that drives the opto-coupler. The opto driver amplifier uses an inverting gain of six configuration to drive the opto-coupler referenced to ground. Driving the opto-coupler referenced to (See Datasheet)"